# Altium footprint library transistor.PcbLib: 1 footprints
Each footprint in its own frame and in the unit in brackets; x right, y up, seen from the top. Pads: shape width x height; smd on the part's side, far side on the other; paste and mask are expansions set on the pad; w line width, h text height; cw(c..) or ccw(c..) is an arc to the next point about the centre after c.
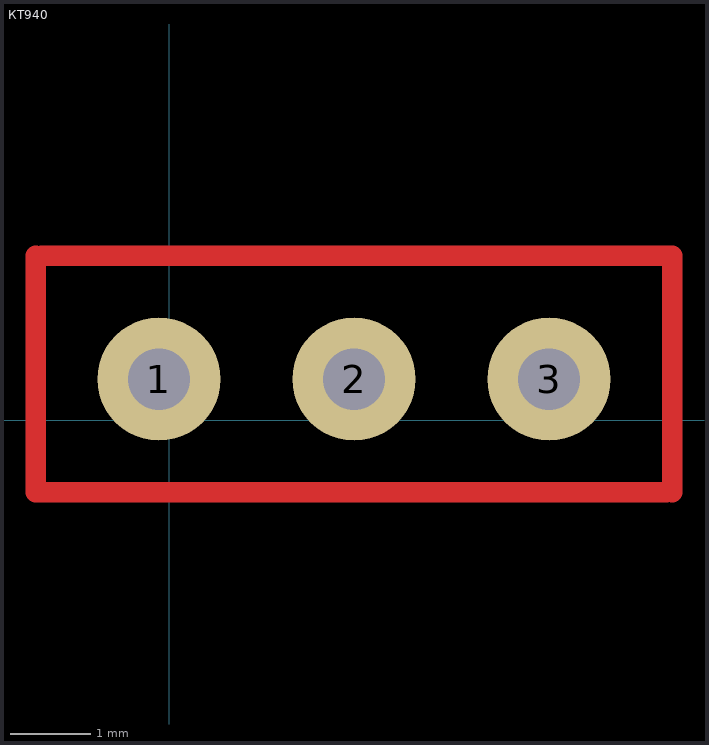
[diagram p0: the footprint, top view; thin cyan lines are the x and y axes]

## КТ940 [mil] "VT&"
height 10
pads (3):
  round 60 hole 30: 1(-5,20) 2(90,20) 3(185,20)
Top Layer:
  lines w10: -65,80 -65,-35 242.09,-35 ; -62.09,80 245,80 245,-35